# EAGLE library part EDSTLZ-8 (library con-ost)
ON-SHORE
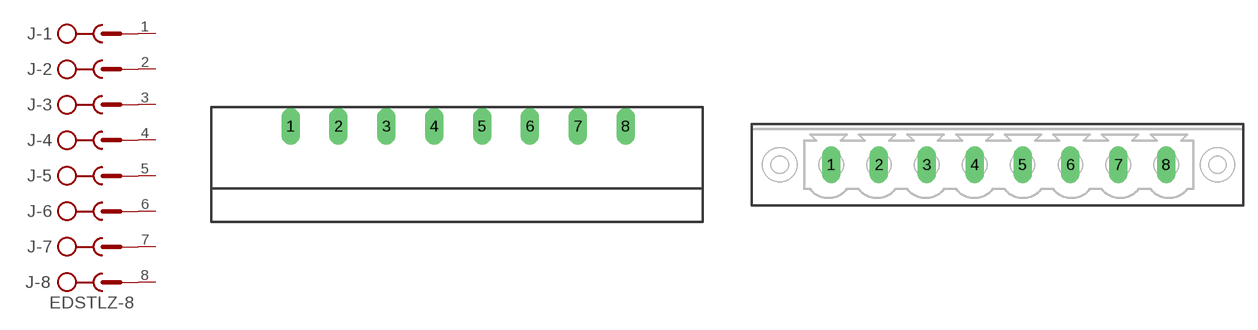
[diagram p2: symbol with the pads of 951-8; footprints 951-8, 956-8]

Designator prefix J; gates -1=SK -2=SK -3=SK -4=SK -5=SK -6=SK -7=SK -8=SKV

## EDSTLZ-8-951  [951-8]
1  -1:SK  pas
2  -2:SK  pas
3  -3:SK  pas
4  -4:SK  pas
5  -5:SK  pas
6  -6:SK  pas
7  -7:SK  pas
8  -8:SK  pas

## EDSTLZ-8-956  [956-8]
Pads as for 951-8

## EDSTLZ-8-1555  [1555-8]
Pads as for 951-8

## Footprint 951-8 (pad centres in mm)
Connector Right Angle pitch 0.2" (5 mm)
drill 1.27 pad 1.93 long: 1 -17.5,0; 2 -12.5,0; 3 -7.5,0; 4 -2.5,0; 5 2.5,0; 6 7.5,0; 7 12.5,0; 8 17.5,0

## Footprint 956-8 (pad centres in mm)
Connector Vertical pitch 0.2" (5 mm)
drill 1.27 pad 1.93 long: 1 -17.5,0; 2 -12.5,0; 3 -7.5,0; 4 -2.5,0; 5 2.5,0; 6 7.5,0; 7 12.5,0; 8 17.5,0

## Footprint 1555-8 (pad centres in mm)
Connector Vertical pitch 0.15" (3.81 mm)
drill 1.27 pad 1.93 long: 1 -13.335,0; 2 -9.525,0; 3 -5.715,0; 4 -1.905,0; 5 1.905,0; 6 5.715,0; 7 9.525,0; 8 13.335,0